# EAGLE library part LMZ2170* (library ti)
LMZ2170X 1 A SIMPLE SWITCHER® Nano Module with 17 V Maximum Input Voltage
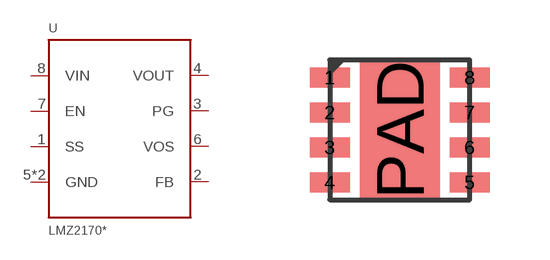
[diagram p2: symbol with the pads of SIL0008E; footprint SIL0008E]

Designator prefix U

## LMZ21700 (DISTRIBUTOR: RS; ORDER_CODE: 900-9750), LMZ21701 (DISTRIBUTOR: RS; ORDER_CODE: 798-1212)  [SIL0008E]
1  SS  pas
2  FB  in
3  PG  out
4  VOUT  pas
5  GND  pwr
6  VOS  in
7  EN  in
8  VIN  pwr
PAD  GND  pwr

## Footprint SIL0008E (pad centres in mm)
smd 1 x 0.5: 1 -1.75,1.312; 2 -1.75,0.438; 3 -1.75,-0.438; 4 -1.75,-1.312; 5 1.75,-1.312; 6 1.75,-0.438; 7 1.75,0.438; 8 1.75,1.312
smd 2 x 3.5: PAD 0,0